# Altium schematic symbol library User.SchLib: 2 symbols
Pins are listed as number, name and electrical type; pins without a type are passive.

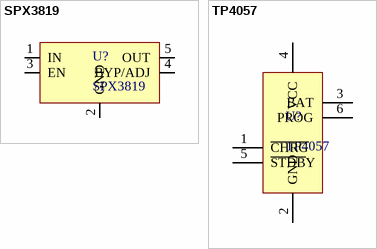
[diagram p0: symbols SPX3819 to TP4057]

## SPX3819
designator U?
footprint SOT23-5
pins: 1 IN, 2 GND, 3 EN, 4 BYP/ADJ, 5 OUT

## TP4057
designator U?
footprint SOT23-6
pins: 1 ~{CHRG}, 2 GND, 3 BAT, 4 VCC, 5 ~{STDB}Y, 6 PROG